# EAGLE library part HDMI_RECEPTICAL (library pandaLight)
HDMI receptical
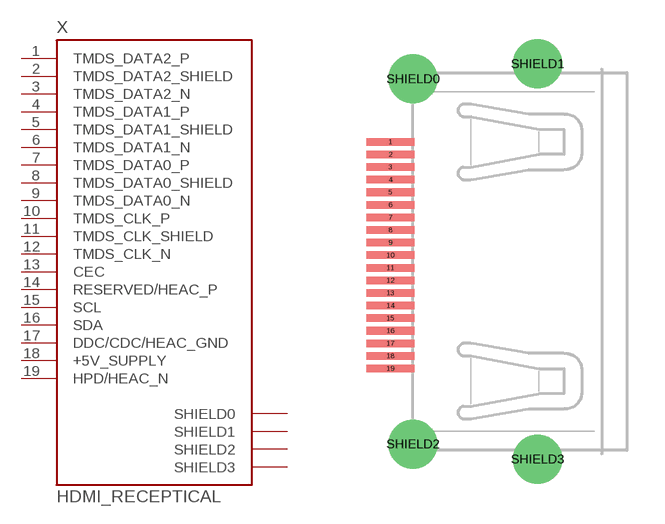
[diagram p3: symbol with the pads of HDMI_TYPE_A_RECEPTICAL; footprint HDMI_TYPE_A_RECEPTICAL]

Designator prefix X

## HDMI_RECEPTICAL_A  [HDMI_TYPE_A_RECEPTICAL]
1  TMDS_DATA2_P
2  TMDS_DATA2_SHIELD  pwr
3  TMDS_DATA2_N
4  TMDS_DATA1_P
5  TMDS_DATA1_SHIELD  pwr
6  TMDS_DATA1_N
7  TMDS_DATA0_P
8  TMDS_DATA0_SHIELD  pwr
9  TMDS_DATA0_N
10  TMDS_CLK_P
11  TMDS_CLK_SHIELD  pwr
12  TMDS_CLK_N
13  CEC
14  RESERVED/HEAC_P
15  SCL
16  SDA
17  DDC/CDC/HEAC_GND  pwr
18  +5V_SUPPLY
19  HPD/HEAC_N
SHIELD0  SHIELD0  nc
SHIELD1  SHIELD1  nc
SHIELD2  SHIELD2  nc
SHIELD3  SHIELD3  nc

## Footprint HDMI_TYPE_A_RECEPTICAL (pad centres in mm)
smd 1.9 x 0.3: 1 -3.9,4.75; 2 -3.9,4.25; 3 -3.9,3.75; 4 -3.9,3.25; 5 -3.9,2.75; 6 -3.9,2.25; 7 -3.9,1.75; 8 -3.9,1.25; 9 -3.9,0.75; 10 -3.9,0.25; 11 -3.9,-0.25; 12 -3.9,-0.75; 13 -3.9,-1.25; 14 -3.9,-1.75; 15 -3.9,-2.25; 16 -3.9,-2.75; 17 -3.9,-3.25; 18 -3.9,-3.75; 19 -3.9,-4.25
drill 1.3: SHIELD0 -3,7.25; SHIELD1 1.95,7.85; SHIELD2 -3,-7.25; SHIELD3 1.95,-7.85